# EAGLE library part REF3440IDBVR (library REF3440IDBVR)
Check prices <https://pricing.snapeda.com/parts/REF3440IDBVR/Texas%20Instruments/view-part?ref=eda>
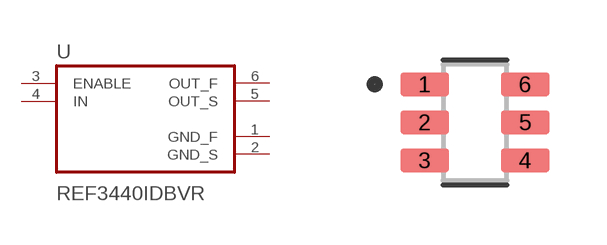
[diagram p0: symbol with the pads of SOT95P280X145-6N; footprint SOT95P280X145-6N]

Designator prefix U

## REF3440IDBVR (Availability: In Stock; Description: 4.1-V low-drift low-power small-footprint series voltage reference 6-SOT-23 -40 to 125; MF: Texas Instruments; MP: REF3440IDBVR; Package: SOT-23-6 Texas Instruments; Price: None; Purchase-URL: https://pricing.snapeda.com/search/part/REF3440IDBVR/?ref=eda)  [SOT95P280X145-6N]
1  GND_F  pwr
2  GND_S  pwr
3  ENABLE  in
4  IN  in
5  OUT_S  out
6  OUT_F  out

## Footprint SOT95P280X145-6N (pad centres in mm)
smd 1.21 x 0.58: 1 -1.255,0.95; 2 -1.255,0; 3 -1.255,-0.95; 4 1.255,-0.95; 5 1.255,0; 6 1.255,0.95